# Altium footprint library BK-870-NDLib.PcbLib: 2 footprints
Each footprint in its own frame and in the unit in brackets; x right, y up, seen from the top. Pads: shape width x height; smd on the part's side, far side on the other; paste and mask are expansions set on the pad; w line width, h text height; cw(c..) or ccw(c..) is an arc to the next point about the centre after c.
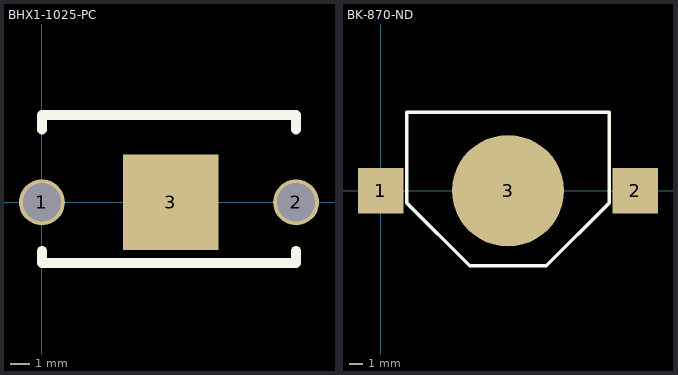
[diagram p0: the footprints below, top view; thin cyan lines are the x and y axes]

## BHX1-1025-PC [mm]
pads (3):
  round 2.4 hole 2: 1(0,0) 2(13.3,0)
  rect 5x5 smd: 3(6.731,0)
Top Overlay:
  lines w0.508: 0,-2.54 0,-3.175 13.3,-3.175 13.3,-2.54 ; 0,3.81 0,4.572 13.3,4.572 13.3,3.81
3D body: height 1.91, standoff 0.13, extent 12.544,-0.76 14.062,0.761
3D body: height 1.91, standoff 0.13, extent -0.76,-0.76 0.758,0.76
3D body: height 3.56, standoff 0, extent -0.254,-3.429 13.554,4.826

## BK-870-ND [mil] "BK-870-ND"
pads (3):
  rect 130x130 smd: 1(0,0) 2(730,0)
  round 320 smd: 3(365,0)
Top Overlay:
  lines w10: 75,-35 255,-215 275,-215 475,-215 655,-35 655,225 75,225 75,-35
3D body: height 50, standoff 0, extent 74.98,-215.02 655.02,225.02
3D body: height 50, standoff 0, extent 74.98,-215.02 655.02,225.02
3D body: height 50, standoff 0, extent -69,-220 799,230